# EAGLE library part ESP32 (library LM555-SHAYAN-NOORANI)
ESP32 Datasheet <https://cdn-learn.adafruit.com/downloads/pdf/adafruit-huzzah32-esp32-feather.pdf> Requires ordering of: 1: 12 pin, 0.1" pitch female headers 1: 16 pin, 0.1" pitch female headers
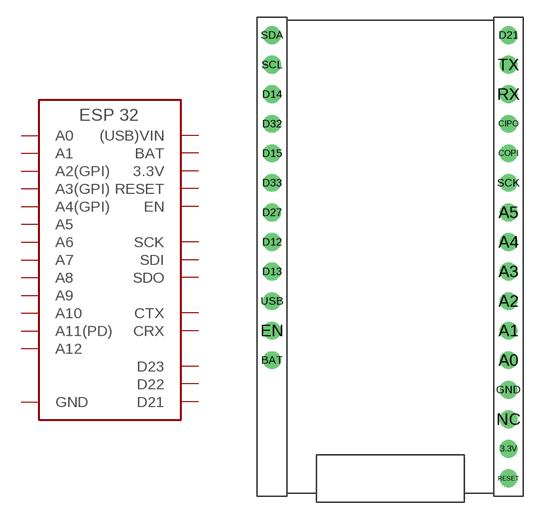
[diagram p42: symbol with the pads of ESP32; footprint ESP32]

Designator prefix A

## ESP32 (DKPN: 1528-2181-ND; MANUFACTURER: Adafruit Industries LLC; MPN: 3405)  [ESP32]
3.3V  3.3V  pwr
A0  A0
A1  A1
A2  A2(GPI)  in
A3  A3(GPI)  in
A4  A4(GPI)  in
A5  A5
BAT  BAT  pwr
CIPO  SDI
COPI  SDO
D12  A11(PD)
D13  A12
D14  A6
D15  A8
D21  D21
D27  A10
D32  A7
D33  A9
EN  EN  pwr
GND  GND  pwr
RESET  RESET  pwr
RX  CRX
SCK  SCK
SCL  D23
SDA  D22
TX  CTX
USB  (USB)VIN  pwr

## Footprint ESP32 (pad centres in mm)
ESP32 Footprint See breadboard placement for pin distancing Datasheet <https://cdn-learn.adafruit.com/downloads/pdf/adafruit-huzzah32-esp32-feather.pdf> Headers <https://media.digikey.com/pdf/Data%20Sheets/Sullins%20PDFs/Female_Headers.100_DS.pdf>
drill 1.016: 3.3V 10.16,2.54; A0 10.16,10.16; A1 10.16,12.7; A2 10.16,15.24; A3 10.16,17.78; A4 10.16,20.32; A5 10.16,22.86; BAT -10.16,10.16; CIPO 10.16,30.48; COPI 10.16,27.94; D12 -10.16,20.32; D13 -10.16,17.78; D14 -10.16,33.02; D15 -10.16,27.94; D21 10.16,38.1; D27 -10.16,22.86; D32 -10.16,30.48; D33 -10.16,25.4; EN -10.16,12.7; GND 10.16,7.62; NC 10.16,5.08; RESET 10.16,0; RX 10.16,33.02; SCK 10.16,25.4; SCL -10.16,35.56; SDA -10.16,38.1; TX 10.16,35.56; USB -10.16,15.24